# Altium schematic symbol library Schematics.SchLib: 18 symbols
Pins are listed as number, name and electrical type; pins without a type are passive.

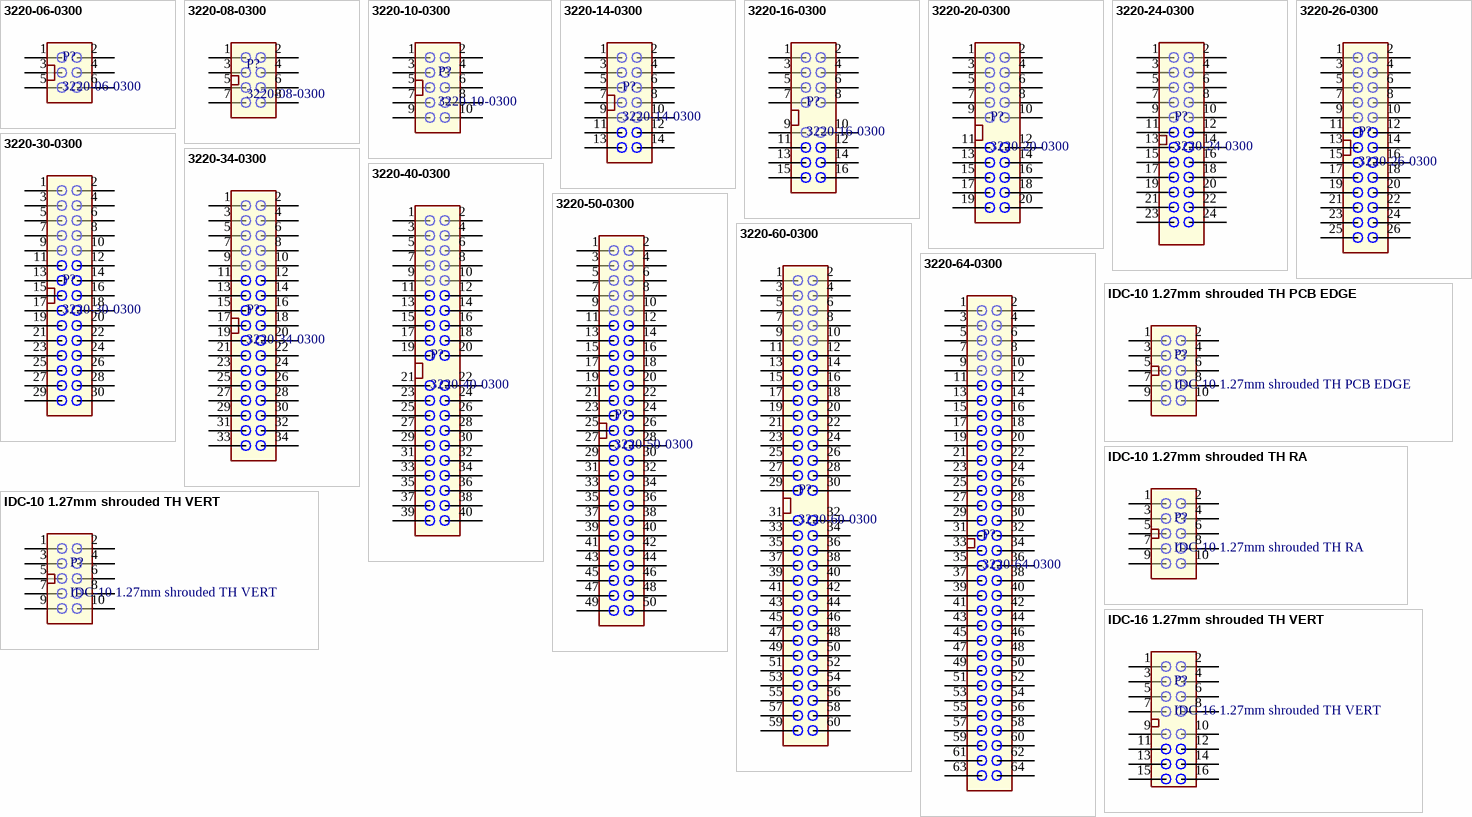
[diagram p0: symbols 3220-06-0300 to IDC-16 1.27mm shrouded TH VERT]

## 3220-06-0300
designator P?
IDC-6 1.27mm shrouded SMD VERT CNC Tech
pins: 1, 2, 3, 4, 5, 6

## 3220-08-0300
designator P?
IDC-8 1.27mm shrouded SMD VERT CNC Tech
pins: 1, 2, 3, 4, 5, 6, 7, 8

## 3220-10-0300
designator P?
IDC-10 1.27mm shrouded SMD VERT CNC Tech
footprint 3220-10-0300 (IDC-10 1.27mm shrouded SMD VERT)
pins: 1, 2, 3, 4, 5, 6, 7, 8, 9, 10

## 3220-14-0300
designator P?
IDC-14 1.27mm shrouded SMD VERT CNC Tech
footprint 3220-14-0300 (IDC-14 1.27mm shrouded SMD VERT)
pins: 1, 2, 3, 4, 5, 6, 7, 8, 9, 10, 11, 12, 13, 14

## 3220-16-0300
designator P?
IDC-16 1.27mm shrouded SMD VERT CNC Tech
footprint 3220-16-0300 (IDC-16 1.27mm shrouded SMD VERT)
pins: 1, 2, 3, 4, 5, 6, 7, 8, 9, 10, 11, 12, 13, 14, 15, 16

## 3220-20-0300
designator P?
IDC-20 1.27mm shrouded SMD VERT CNC Tech
footprint 3220-20-0300 (IDC-20 1.27mm shrouded SMD VERT)
pins: 1, 2, 3, 4, 5, 6, 7, 8, 9, 10, 11, 12, 13, 14, 15, 16, 17, 18, 19, 20

## 3220-24-0300
designator P?
IDC-24 1.27mm shrouded SMD VERT CNC Tech
pins: 1, 2, 3, 4, 5, 6, 7, 8, 9, 10, 11, 12, 13, 14, 15, 16, 17, 18, 19, 20, 21, 22, 23, 24

## 3220-26-0300
designator P?
IDC-26 1.27mm shrouded SMD VERT CNC Tech
footprint 3220-26-0300 (IDC-26 1.27mm shrouded SMD VERT)
pins: 1, 2, 3, 4, 5, 6, 7, 8, 9, 10, 11, 12, 13, 14, 15, 16, 17, 18, 19, 20, 21, 22, 23, 24, 25, 26

## 3220-30-0300
designator P?
IDC-30 1.27mm shrouded SMD VERT CNC Tech
footprint 3220-30-0300 (IDC-30 1.27mm shrouded SMD VERT)
pins: 1, 2, 3, 4, 5, 6, 7, 8, 9, 10, 11, 12, 13, 14, 15, 16, 17, 18, 19, 20, 21, 22, 23, 24, 25, 26, 27, 28, 29, 30

## 3220-34-0300
designator P?
IDC-34 1.27mm shrouded SMD VERT CNC Tech
footprint 3220-34-0300 (IDC-34 1.27mm shrouded SMD VERT)
pins: 1, 2, 3, 4, 5, 6, 7, 8, 9, 10, 11, 12, 13, 14, 15, 16, 17, 18, 19, 20, 21, 22, 23, 24, 25, 26, 27, 28, 29, 30, 31, 32, 33, 34

## 3220-40-0300
designator P?
IDC-40 1.27mm shrouded SMD VERT CNC Tech
footprint 3220-40-0300 (IDC-40 1.27mm shrouded SMD VERT)
pins: 1, 2, 3, 4, 5, 6, 7, 8, 9, 10, 11, 12, 13, 14, 15, 16, 17, 18, 19, 20, 21, 22, 23, 24, 25, 26, 27, 28, 29, 30, 31, 32, 33, 34, 35, 36, 37, 38, 39, 40

## 3220-50-0300
designator P?
IDC-50 1.27mm shrouded SMD VERT CNC Tech
footprint 3220-50-0300 (IDC-50 1.27mm shrouded SMD VERT)
pins: 1, 2, 3, 4, 5, 6, 7, 8, 9, 10, 11, 12, 13, 14, 15, 16, 17, 18, 19, 20, 21, 22, 23, 24, 25, 26, 27, 28, 29, 30, 31, 32, 33, 34, 35, 36, 37, 38, 39, 40, 41, 42, 43, 44, 45, 46, 47, 48, 49, 50

## 3220-60-0300
designator P?
IDC-60 1.27mm shrouded SMD VERT CNC Tech
footprint 3220-60-0300 (IDC-60 1.27mm shrouded SMD VERT)
pins: 1, 2, 3, 4, 5, 6, 7, 8, 9, 10, 11, 12, 13, 14, 15, 16, 17, 18, 19, 20, 21, 22, 23, 24, 25, 26, 27, 28, 29, 30, 31, 32, 33, 34, 35, 36, 37, 38, 39, 40, 41, 42, 43, 44, 45, 46, 47, 48, 49, 50, 51, 52, 53, 54, 55, 56, 57, 58, 59, 60

## 3220-64-0300
designator P?
IDC-64 1.27mm shrouded SMD VERT CNC Tech
pins: 1, 2, 3, 4, 5, 6, 7, 8, 9, 10, 11, 12, 13, 14, 15, 16, 17, 18, 19, 20, 21, 22, 23, 24, 25, 26, 27, 28, 29, 30, 31, 32, 33, 34, 35, 36, 37, 38, 39, 40, 41, 42, 43, 44, 45, 46, 47, 48, 49, 50, 51, 52, 53, 54, 55, 56, 57, 58, 59, 60, 61, 62, 63, 64

## IDC-10 1.27mm shrouded TH PCB EDGE
designator P?
footprint IDC-10 1.27mm shrouded TH PCB EDGE (IDC-10 1.27mm shrouded TH RA)
pins: 1, 2, 3, 4, 5, 6, 7, 8, 9, 10

## IDC-10 1.27mm shrouded TH RA
designator P?
footprint IDC-10 1.27mm shrouded TH RA
pins: 1, 2, 3, 4, 5, 6, 7, 8, 9, 10

## IDC-10 1.27mm shrouded TH VERT
designator P?
footprint IDC-10 1.27mm shrouded TH VERT
pins: 1, 2, 3, 4, 5, 6, 7, 8, 9, 10

## IDC-16 1.27mm shrouded TH VERT
designator P?
pins: 1, 2, 3, 4, 5, 6, 7, 8, 9, 10, 11, 12, 13, 14, 15, 16